# EAGLE library part KSZ8041 (library balto)
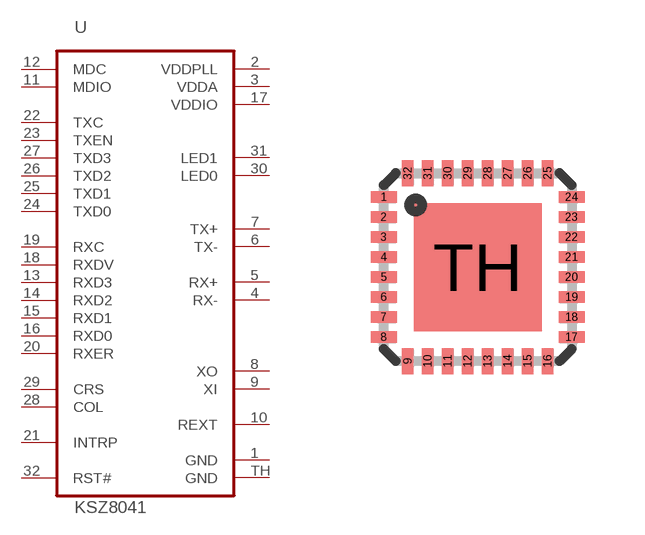
[diagram p19: symbol with the pads of MLF32-TH; footprint MLF32-TH]

Designator prefix U

## KSZ8041  [MLF32-TH]
1  GND
2  VDDPLL
3  VDDA
4  RX-
5  RX+
6  TX-
7  TX+
8  XO
9  XI
10  REXT
11  MDIO
12  MDC
13  RXD3
14  RXD2
15  RXD1
16  RXD0
17  VDDIO
18  RXDV
19  RXC
20  RXER
21  INTRP
22  TXC
23  TXEN
24  TXD0
25  TXD1
26  TXD2
27  TXD3
28  COL
29  CRS
30  LED0
31  LED1
32  RST#
TH  GND

## Footprint MLF32-TH (pad centres in mm)
32M1-A Micro Lead Frame package (MLF)
smd 0.65 x 0.29: 1 -2.35,1.75; 2 -2.35,1.25; 3 -2.35,0.75; 4 -2.35,0.25; 5 -2.35,-0.25; 6 -2.35,-0.75; 7 -2.35,-1.25; 8 -2.35,-1.75; 17 2.35,-1.75; 18 2.35,-1.25; 19 2.35,-0.75; 20 2.35,-0.25; 21 2.35,0.25; 22 2.35,0.75; 23 2.35,1.25; 24 2.35,1.75
smd 0.29 x 0.65: 9 -1.75,-2.35; 10 -1.25,-2.35; 11 -0.75,-2.35; 12 -0.25,-2.35; 13 0.25,-2.35; 14 0.75,-2.35; 15 1.25,-2.35; 16 1.75,-2.35; 25 1.75,2.35; 26 1.25,2.35; 27 0.75,2.35; 28 0.25,2.35; 29 -0.25,2.35; 30 -0.75,2.35; 31 -1.25,2.35; 32 -1.75,2.35
smd 3.2 x 3.2: TH 0,0